# EAGLE library part 66201021022 (library Wurth_Elektronik_Electromechanic_Wire_to_Board_Connectors_rev16a)
WR-MPC3 3.00mm Male Dual Row Angled Header with Plastic Pegs, 10 Pins=>Code : Con_WTB-MPC3_2_PCB_THT66201021022 <http://katalog.we-online.de/media/thumbs2/eican/thb_Con_WTB-MPC3_2_PCB_THT86220xx21022_pf2.jpg> Details see: http://katalog.we-online.de/en/em/662_0xx_210_22 Created 2014-06-06, Karrer Zheng 2014 (C) Würth Elektronik
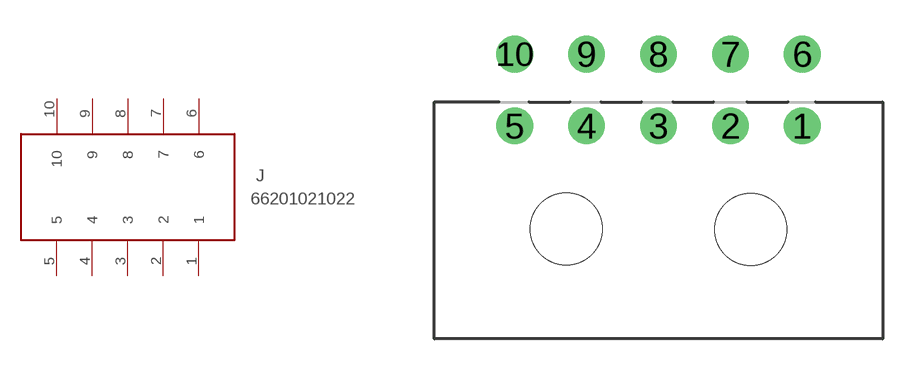
[diagram p349: symbol with the pads of 66201021022; footprint 66201021022]

Designator prefix J

## 66201021022  [66201021022]
1  1
2  2
3  3
4  4
5  5
6  6
7  7
8  8
9  9
10  10

## Footprint 66201021022 (pad centres in mm)
WR-MPC3 3.00mm Male Dual Row Angled Header with Plastic Pegs, 10 Pins
drill 1.02: 1 6,4.3; 2 3,4.3; 3 0,4.3; 4 -3,4.3; 5 -6,4.3; 6 6,7.3; 7 3,7.3; 8 0,7.3; 9 -3,7.3; 10 -6,7.3
hole 3 at 3.85,-0.03
hole 3 at -3.85,0